# EAGLE library part PAX_MODULE (library PaxInstruments-Connectors)
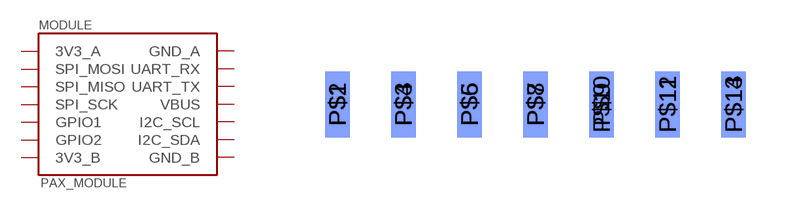
[diagram p5: symbol with the pads of M07X2_2MM_EDGE; footprint M07X2_2MM_EDGE]

Designator prefix MODULE

## PAX_MODULE_EDGE_FEMALE_HOST (MF: Pax Instruments; MPN: PIxxxx; VALUE: PI-module-female)  [M07X2_2MM_EDGE]
P$1  3V3_A  pwr
P$2  GND_A  pwr
P$3  SPI_MOSI
P$4  UART_RX
P$5  SPI_MISO
P$6  UART_TX
P$7  SPI_SCK
P$8  VBUS
P$9  GPIO1
P$10  I2C_SCL
P$11  GPIO2
P$12  I2C_SDA
P$13  3V3_B
P$14  GND_B

## PAX_MODULE_EDGE_MALE_MODULE (MF: Pax Instruments; MPN: PIxxxx; VALUE: PI-module-male)  [M07X2_2MM_EDGE]
P$1  3V3_B
P$2  GND_B
P$3  GPIO2
P$4  I2C_SDA
P$5  GPIO1
P$6  I2C_SCL
P$7  SPI_SCK
P$8  VBUS
P$9  SPI_MISO
P$10  UART_TX
P$11  SPI_MOSI
P$12  UART_RX
P$13  3V3_A  pwr
P$14  GND_A  pwr

## Footprint M07X2_2MM_EDGE (pad centres in mm)
smd 0.75 x 2: P$1 0,-0.25; P$3 2,-0.25; P$5 4,-0.25; P$7 6,-0.25; P$9 8,-0.25; P$11 10,-0.25; P$13 12,-0.25
smd 0.75 x 2 bottom: P$2 0,-0.25; P$4 2,-0.25; P$6 4,-0.25; P$8 6,-0.25; P$10 8,-0.25; P$12 10,-0.25; P$14 12,-0.25